# EAGLE library part MAX485 (library mathrax)
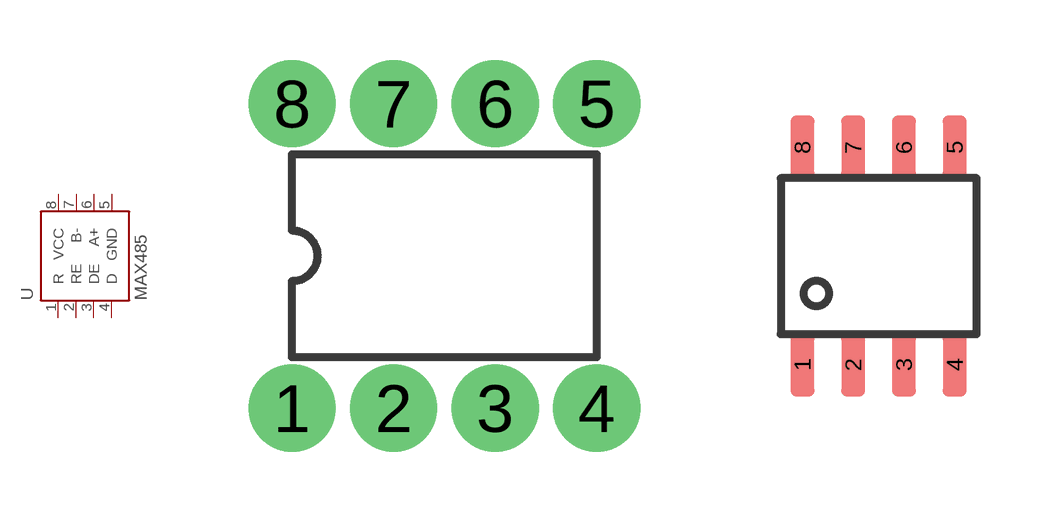
[diagram p3: symbol with the pads of 8PIN_DIP; footprints 8PIN_DIP, 8PIN_SOP]

Designator prefix -

## MAX485  [8PIN_DIP]
1  R
2  RE
3  DE
4  D
5  GND
6  A+
7  B-
8  VCC

## MAX4858PIN_SOP  [8PIN_SOP]
Pads as for 8PIN_DIP

## Footprint 8PIN_DIP (pad centres in mm)
drill 0.8 pad 2.184: 1 -3.81,-3.81; 2 -1.27,-3.81; 3 1.27,-3.81; 4 3.81,-3.81; 5 3.81,3.81; 6 1.27,3.81; 7 -1.27,3.81; 8 -3.81,3.81

## Footprint 8PIN_SOP (pad centres in mm)
smd 0.6 x 1.6: 1 -1.905,-2.712; 2 -0.635,-2.712; 3 0.635,-2.712; 4 1.905,-2.712; 5 1.905,2.723; 6 0.635,2.723; 7 -0.635,2.723; 8 -1.905,2.723